# Altium footprint library Cypress Footprints.PcbLib: 193 footprints (part 11 of 13)
Each footprint in its own frame and in the unit in brackets; x right, y up, seen from the top. Pads: shape width x height; smd on the part's side, far side on the other; paste and mask are expansions set on the pad; w line width, h text height; cw(c..) or ccw(c..) is an arc to the next point about the centre after c.
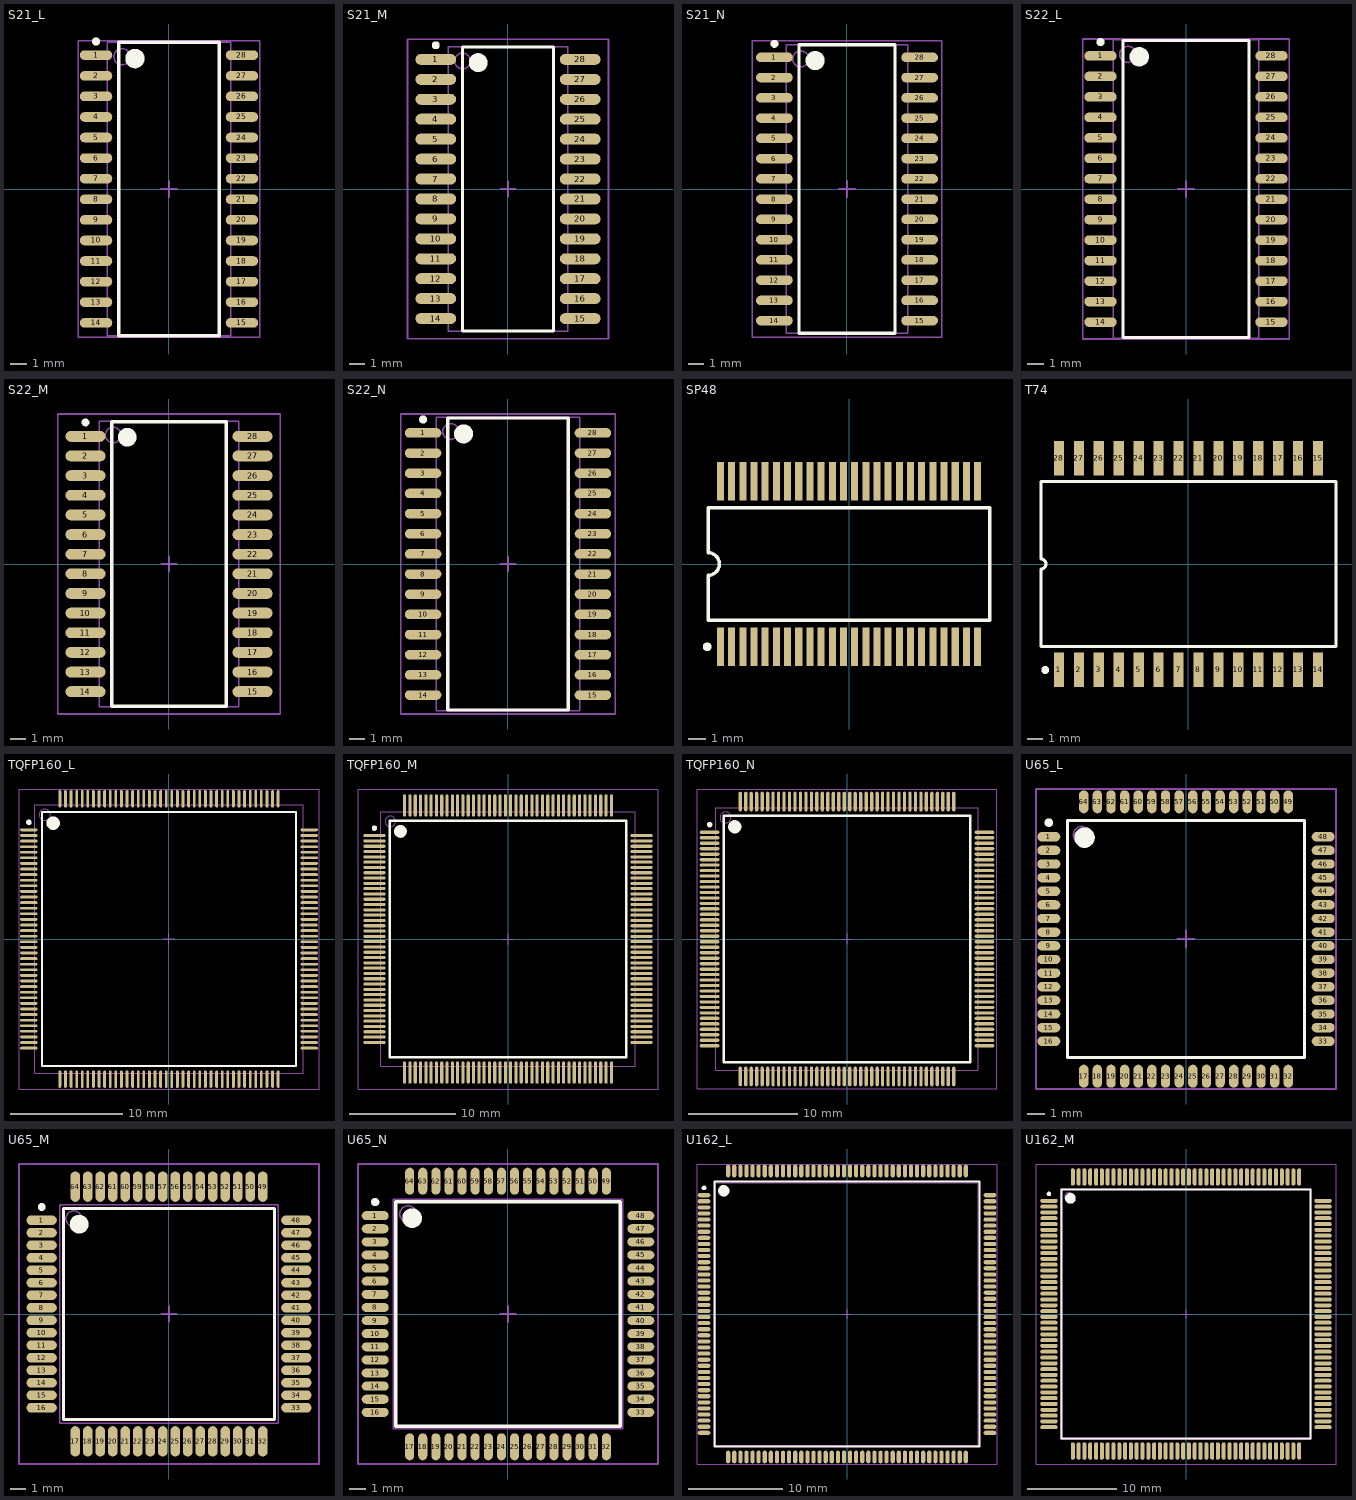
[diagram p10: the footprints below, top view; thin cyan lines are the x and y axes]

## S21_L [mm] "28-Pin Molded Small Outline Integrated Circuit 1.27 mm Pitch, IPC High Density"
height 2.67
pads (28):
  oval 2x0.6 smd: 1(-4.5,8.255) 2(-4.5,6.985) 3(-4.5,5.715) 4(-4.5,4.445) 5(-4.5,3.175) 6(-4.5,1.905) 7(-4.5,0.635) 8(-4.5,-0.635) 9(-4.5,-1.905) 10(-4.5,-3.175) 11(-4.5,-4.445) 12(-4.5,-5.715) 13(-4.5,-6.985) 14(-4.5,-8.255) 15(4.5,-8.255) 16(4.5,-6.985) 17(4.5,-5.715) 18(4.5,-4.445) 19(4.5,-3.175) 20(4.5,-1.905) 21(4.5,-0.635) 22(4.5,0.635) 23(4.5,1.905) 24(4.5,3.175) 25(4.5,4.445) 26(4.5,5.715) 27(4.5,6.985) 28(4.5,8.255)
Top Overlay:
  circle w0.25: c-4.5,9.105 r0.125
  circle w0.6: c-2.1,8.05 r0.3
  lines w0.2: -3.1,-9.05 -3.1,9.05 3.1,9.05 3.1,-9.05 -3.1,-9.05
Mechanical 13:
  circle w0.1: c-2.9,8.155 r0.5
  lines w0.1: -3.8,-9.055 -3.8,9.055 3.8,9.055 3.8,-9.055 -3.8,-9.055
Mechanical 15:
  lines w0.1: -0.5,0 0.5,0 ; 0,-0.5 0,0.5 ; -5.6,-9.15 -5.6,9.15 5.6,9.15 5.6,-9.15 -5.6,-9.15
3D body: height 2.67, standoff 0, extent -3.8,-9.055 3.8,9.055

## S21_M [mm] "28-Pin Molded Small Outline Integrated Circuit 1.27 mm Pitch, IPC Low Density"
height 2.67
pads (28):
  oval 2.6x0.7 smd: 1(-4.6,8.255) 2(-4.6,6.985) 3(-4.6,5.715) 4(-4.6,4.445) 5(-4.6,3.175) 6(-4.6,1.905) 7(-4.6,0.635) 8(-4.6,-0.635) 9(-4.6,-1.905) 10(-4.6,-3.175) 11(-4.6,-4.445) 12(-4.6,-5.715) 13(-4.6,-6.985) 14(-4.6,-8.255) 15(4.6,-8.255) 16(4.6,-6.985) 17(4.6,-5.715) 18(4.6,-4.445) 19(4.6,-3.175) 20(4.6,-1.905) 21(4.6,-0.635) 22(4.6,0.635) 23(4.6,1.905) 24(4.6,3.175) 25(4.6,4.445) 26(4.6,5.715) 27(4.6,6.985) 28(4.6,8.255)
Top Overlay:
  circle w0.25: c-4.6,9.155 r0.125
  circle w0.6: c-1.9,8.05 r0.3
  lines w0.2: -2.9,-9.05 -2.9,9.05 2.9,9.05 2.9,-9.05 -2.9,-9.05
Mechanical 13:
  circle w0.1: c-2.9,8.155 r0.5
  lines w0.1: -3.8,-9.055 -3.8,9.055 3.8,9.055 3.8,-9.055 -3.8,-9.055
Mechanical 15:
  lines w0.1: -0.5,0 0.5,0 ; 0,-0.5 0,0.5 ; -6.4,-9.55 -6.4,9.55 6.4,9.55 6.4,-9.55 -6.4,-9.55
3D body: height 2.67, standoff 0, extent -3.8,-9.055 3.8,9.055

## S21_N [mm] "28-Pin Molded Small Outline Integrated Circuit 1.27 mm Pitch, IPC Medium Density"
height 2.67
pads (28):
  oval 2.3x0.6 smd: 1(-4.55,8.255) 2(-4.55,6.985) 3(-4.55,5.715) 4(-4.55,4.445) 5(-4.55,3.175) 6(-4.55,1.905) 7(-4.55,0.635) 8(-4.55,-0.635) 9(-4.55,-1.905) 10(-4.55,-3.175) 11(-4.55,-4.445) 12(-4.55,-5.715) 13(-4.55,-6.985) 14(-4.55,-8.255) 15(4.55,-8.255) 16(4.55,-6.985) 17(4.55,-5.715) 18(4.55,-4.445) 19(4.55,-3.175) 20(4.55,-1.905) 21(4.55,-0.635) 22(4.55,0.635) 23(4.55,1.905) 24(4.55,3.175) 25(4.55,4.445) 26(4.55,5.715) 27(4.55,6.985) 28(4.55,8.255)
Top Overlay:
  circle w0.25: c-4.55,9.105 r0.125
  circle w0.6: c-2,8.05 r0.3
  lines w0.2: -3,-9.05 -3,9.05 3,9.05 3,-9.05 -3,-9.05
Mechanical 13:
  circle w0.1: c-2.9,8.155 r0.5
  lines w0.1: -3.8,-9.055 -3.8,9.055 3.8,9.055 3.8,-9.055 -3.8,-9.055
Mechanical 15:
  lines w0.1: -0.5,0 0.5,0 ; 0,-0.5 0,0.5 ; -5.95,-9.3 -5.95,9.3 5.95,9.3 5.95,-9.3 -5.95,-9.3
3D body: height 2.67, standoff 0, extent -3.8,-9.055 3.8,9.055

## S22_L [mm] "28-Pin Plastic Small Outline Integrated Circuit 1.27 mm Pitch, IPC High Density"
height 2.8
pads (28):
  oval 2x0.6 smd: 1(-5.3,8.255) 2(-5.3,6.985) 3(-5.3,5.715) 4(-5.3,4.445) 5(-5.3,3.175) 6(-5.3,1.905) 7(-5.3,0.635) 8(-5.3,-0.635) 9(-5.3,-1.905) 10(-5.3,-3.175) 11(-5.3,-4.445) 12(-5.3,-5.715) 13(-5.3,-6.985) 14(-5.3,-8.255) 15(5.3,-8.255) 16(5.3,-6.985) 17(5.3,-5.715) 18(5.3,-4.445) 19(5.3,-3.175) 20(5.3,-1.905) 21(5.3,-0.635) 22(5.3,0.635) 23(5.3,1.905) 24(5.3,3.175) 25(5.3,4.445) 26(5.3,5.715) 27(5.3,6.985) 28(5.3,8.255)
Top Overlay:
  circle w0.25: c-5.3,9.105 r0.125
  circle w0.6: c-2.9,8.2 r0.3
  lines w0.2: -3.9,-9.2 -3.9,9.2 3.9,9.2 3.9,-9.2 -3.9,-9.2
Mechanical 13:
  circle w0.1: c-3.61,8.345 r0.5
  lines w0.1: -4.51,-9.245 -4.51,9.245 4.51,9.245 4.51,-9.245 -4.51,-9.245
Mechanical 15:
  lines w0.1: -0.5,0 0.5,0 ; 0,-0.5 0,0.5 ; -6.4,-9.3 -6.4,9.3 6.4,9.3 6.4,-9.3 -6.4,-9.3
3D body: height 2.8, standoff 0, extent -4.51,-9.245 4.51,9.245

## S22_M [mm] "28-Pin Plastic Small Outline Integrated Circuit 1.27 mm Pitch, IPC Low Density"
height 2.8
pads (28):
  oval 2.6x0.7 smd: 1(-5.4,8.255) 2(-5.4,6.985) 3(-5.4,5.715) 4(-5.4,4.445) 5(-5.4,3.175) 6(-5.4,1.905) 7(-5.4,0.635) 8(-5.4,-0.635) 9(-5.4,-1.905) 10(-5.4,-3.175) 11(-5.4,-4.445) 12(-5.4,-5.715) 13(-5.4,-6.985) 14(-5.4,-8.255) 15(5.4,-8.255) 16(5.4,-6.985) 17(5.4,-5.715) 18(5.4,-4.445) 19(5.4,-3.175) 20(5.4,-1.905) 21(5.4,-0.635) 22(5.4,0.635) 23(5.4,1.905) 24(5.4,3.175) 25(5.4,4.445) 26(5.4,5.715) 27(5.4,6.985) 28(5.4,8.255)
Top Overlay:
  circle w0.25: c-5.4,9.155 r0.125
  circle w0.6: c-2.7,8.2 r0.3
  lines w0.2: -3.7,-9.2 -3.7,9.2 3.7,9.2 3.7,-9.2 -3.7,-9.2
Mechanical 13:
  circle w0.1: c-3.61,8.345 r0.5
  lines w0.1: -4.51,-9.245 -4.51,9.245 4.51,9.245 4.51,-9.245 -4.51,-9.245
Mechanical 15:
  lines w0.1: -0.5,0 0.5,0 ; 0,-0.5 0,0.5 ; -7.2,-9.7 -7.2,9.7 7.2,9.7 7.2,-9.7 -7.2,-9.7
3D body: height 2.8, standoff 0, extent -4.51,-9.245 4.51,9.245

## S22_N [mm] "28-Pin Plastic Small Outline Integrated Circuit 1.27 mm Pitch, IPC Medium Density"
height 2.8
pads (28):
  oval 2.3x0.6 smd: 1(-5.35,8.255) 2(-5.35,6.985) 3(-5.35,5.715) 4(-5.35,4.445) 5(-5.35,3.175) 6(-5.35,1.905) 7(-5.35,0.635) 8(-5.35,-0.635) 9(-5.35,-1.905) 10(-5.35,-3.175) 11(-5.35,-4.445) 12(-5.35,-5.715) 13(-5.35,-6.985) 14(-5.35,-8.255) 15(5.35,-8.255) 16(5.35,-6.985) 17(5.35,-5.715) 18(5.35,-4.445) 19(5.35,-3.175) 20(5.35,-1.905) 21(5.35,-0.635) 22(5.35,0.635) 23(5.35,1.905) 24(5.35,3.175) 25(5.35,4.445) 26(5.35,5.715) 27(5.35,6.985) 28(5.35,8.255)
Top Overlay:
  circle w0.25: c-5.35,9.105 r0.125
  circle w0.6: c-2.8,8.2 r0.3
  lines w0.2: -3.8,-9.2 -3.8,9.2 3.8,9.2 3.8,-9.2 -3.8,-9.2
Mechanical 13:
  circle w0.1: c-3.61,8.345 r0.5
  lines w0.1: -4.51,-9.245 -4.51,9.245 4.51,9.245 4.51,-9.245 -4.51,-9.245
Mechanical 15:
  lines w0.1: -0.5,0 0.5,0 ; 0,-0.5 0,0.5 ; -6.75,-9.45 -6.75,9.45 6.75,9.45 6.75,-9.45 -6.75,-9.45
3D body: height 2.8, standoff 0, extent -4.51,-9.245 4.51,9.245

## SP48 [mm] "SSOP; 48 Leads; Body Width 7.5 mm; Pitch 0.635 mm; Pb-Free"
height 2.8
pads (48):
  rect 0.4x2.2 smd: 1(-7.302,-4.7) 2(-6.667,-4.7) 3(-6.032,-4.7) 4(-5.397,-4.7) 5(-4.763,-4.7) 6(-4.127,-4.7) 7(-3.492,-4.7) 8(-2.857,-4.7) 9(-2.222,-4.7) 10(-1.587,-4.7) 11(-0.953,-4.7) 12(-0.318,-4.7) 13(0.318,-4.7) 14(0.953,-4.7) 15(1.587,-4.7) 16(2.222,-4.7) 17(2.857,-4.7) 18(3.492,-4.7) 19(4.127,-4.7) 20(4.763,-4.7) 21(5.397,-4.7) 22(6.032,-4.7) 23(6.667,-4.7) 24(7.302,-4.7) 25(7.302,4.7) 26(6.667,4.7) 27(6.032,4.7) 28(5.397,4.7) 29(4.763,4.7) 30(4.127,4.7) 31(3.492,4.7) 32(2.857,4.7) 33(2.222,4.7) 34(1.587,4.7) 35(0.953,4.7) 36(0.318,4.7) 37(-0.318,4.7) 38(-0.953,4.7) 39(-1.587,4.7) 40(-2.222,4.7) 41(-2.857,4.7) 42(-3.492,4.7) 43(-4.127,4.7) 44(-4.763,4.7) 45(-5.397,4.7) 46(-6.032,4.7) 47(-6.667,4.7) 48(-7.302,4.7)
Top Overlay:
  circle w0.25: c-8.053,-4.7 r0.125
  lines w0.2: -8,-3.2 8,-3.2 8,3.2 -8,3.2 -8,0.635 cw(c-8,0) -8,-0.635 -8,-3.2

## T74 [mm] "DFP, Window; 28 Leads; Body 18.8 x 9.7 mm (LxW max); Pitch 1.27 mm"
height 2.54
pads (28):
  rect 0.65x2.2 smd: 1(-8.255,-6.75) 2(-6.985,-6.75) 3(-5.715,-6.75) 4(-4.445,-6.75) 5(-3.175,-6.75) 6(-1.905,-6.75) 7(-0.635,-6.75) 8(0.635,-6.75) 9(1.905,-6.75) 10(3.175,-6.75) 11(4.445,-6.75) 12(5.715,-6.75) 13(6.985,-6.75) 14(8.255,-6.75) 15(8.255,6.75) 16(6.985,6.75) 17(5.715,6.75) 18(4.445,6.75) 19(3.175,6.75) 20(1.905,6.75) 21(0.635,6.75) 22(-0.635,6.75) 23(-1.905,6.75) 24(-3.175,6.75) 25(-4.445,6.75) 26(-5.715,6.75) 27(-6.985,6.75) 28(-8.255,6.75)
Top Overlay:
  circle w0.25: c-9.13,-6.75 r0.125
  lines w0.2: -9.4,-5.25 -9.4,-0.318 ccw(c-9.4,0) -9.4,0.318 -9.4,5.25 9.4,5.25 9.4,-5.25 -9.4,-5.25

## TQFP160_L [mm] "160-Pin Thin Quad Flat Pack 0.5 mm Pitch, IPC High Density"
height 1.6
pads (160):
  oval 1.55x0.25 smd: 1(-12.525,9.75) 2(-12.525,9.25) 3(-12.525,8.75) 4(-12.525,8.25) 5(-12.525,7.75) 6(-12.525,7.25) 7(-12.525,6.75) 8(-12.525,6.25) 9(-12.525,5.75) 10(-12.525,5.25) 11(-12.525,4.75) 12(-12.525,4.25) 13(-12.525,3.75) 14(-12.525,3.25) 15(-12.525,2.75) 16(-12.525,2.25) 17(-12.525,1.75) 18(-12.525,1.25) 19(-12.525,0.75) 20(-12.525,0.25) 21(-12.525,-0.25) 22(-12.525,-0.75) 23(-12.525,-1.25) 24(-12.525,-1.75) 25(-12.525,-2.25) 26(-12.525,-2.75) 27(-12.525,-3.25) 28(-12.525,-3.75) 29(-12.525,-4.25) 30(-12.525,-4.75) 31(-12.525,-5.25) 32(-12.525,-5.75) 33(-12.525,-6.25) 34(-12.525,-6.75) 35(-12.525,-7.25) 36(-12.525,-7.75) 37(-12.525,-8.25) 38(-12.525,-8.75) 39(-12.525,-9.25) 40(-12.525,-9.75) 81(12.525,-9.75) 82(12.525,-9.25) 83(12.525,-8.75) 84(12.525,-8.25) 85(12.525,-7.75) 86(12.525,-7.25) 87(12.525,-6.75) 88(12.525,-6.25) 89(12.525,-5.75) 90(12.525,-5.25) 91(12.525,-4.75) 92(12.525,-4.25) 93(12.525,-3.75) 94(12.525,-3.25) 95(12.525,-2.75) 96(12.525,-2.25) 97(12.525,-1.75) 98(12.525,-1.25) 99(12.525,-0.75) 100(12.525,-0.25) 101(12.525,0.25) 102(12.525,0.75) 103(12.525,1.25) 104(12.525,1.75) 105(12.525,2.25) 106(12.525,2.75) 107(12.525,3.25) 108(12.525,3.75) 109(12.525,4.25) 110(12.525,4.75) 111(12.525,5.25) 112(12.525,5.75) 113(12.525,6.25) 114(12.525,6.75) 115(12.525,7.25) 116(12.525,7.75) 117(12.525,8.25) 118(12.525,8.75) 119(12.525,9.25) 120(12.525,9.75)
  oval 0.25x1.55 smd: 41(-9.75,-12.525) 42(-9.25,-12.525) 43(-8.75,-12.525) 44(-8.25,-12.525) 45(-7.75,-12.525) 46(-7.25,-12.525) 47(-6.75,-12.525) 48(-6.25,-12.525) 49(-5.75,-12.525) 50(-5.25,-12.525) 51(-4.75,-12.525) 52(-4.25,-12.525) 53(-3.75,-12.525) 54(-3.25,-12.525) 55(-2.75,-12.525) 56(-2.25,-12.525) 57(-1.75,-12.525) 58(-1.25,-12.525) 59(-0.75,-12.525) 60(-0.25,-12.525) 61(0.25,-12.525) 62(0.75,-12.525) 63(1.25,-12.525) 64(1.75,-12.525) 65(2.25,-12.525) 66(2.75,-12.525) 67(3.25,-12.525) 68(3.75,-12.525) 69(4.25,-12.525) 70(4.75,-12.525) 71(5.25,-12.525) 72(5.75,-12.525) 73(6.25,-12.525) 74(6.75,-12.525) 75(7.25,-12.525) 76(7.75,-12.525) 77(8.25,-12.525) 78(8.75,-12.525) 79(9.25,-12.525) 80(9.75,-12.525) 121(9.75,12.525) 122(9.25,12.525) 123(8.75,12.525) 124(8.25,12.525) 125(7.75,12.525) 126(7.25,12.525) 127(6.75,12.525) 128(6.25,12.525) 129(5.75,12.525) 130(5.25,12.525) 131(4.75,12.525) 132(4.25,12.525) 133(3.75,12.525) 134(3.25,12.525) 135(2.75,12.525) 136(2.25,12.525) 137(1.75,12.525) 138(1.25,12.525) 139(0.75,12.525) 140(0.25,12.525) 141(-0.25,12.525) 142(-0.75,12.525) 143(-1.25,12.525) 144(-1.75,12.525) 145(-2.25,12.525) 146(-2.75,12.525) 147(-3.25,12.525) 148(-3.75,12.525) 149(-4.25,12.525) 150(-4.75,12.525) 151(-5.25,12.525) 152(-5.75,12.525) 153(-6.25,12.525) 154(-6.75,12.525) 155(-7.25,12.525) 156(-7.75,12.525) 157(-8.25,12.525) 158(-8.75,12.525) 159(-9.25,12.525) 160(-9.75,12.525)
Top Overlay:
  circle w0.6: c-10.35,10.35 r0.3
  circle w0.25: c-12.525,10.425 r0.125
  lines w0.2: -11.35,-11.35 11.35,-11.35 11.35,11.35 -11.35,11.35 -11.35,-11.35
Mechanical 13:
  circle w0.1: c-11.1,11.1 r0.5
  lines w0.1: -12,-12 12,-12 12,12 -12,12 -12,-12
Mechanical 15:
  lines w0.1: -0.5,0 0.5,0 ; 0,-0.5 0,0.5 ; -13.4,-13.4 13.4,-13.4 13.4,13.4 -13.4,13.4 -13.4,-13.4
3D body: height 1.6, standoff 0, extent -12,-12 12,12

## TQFP160_M [mm] "160-Pin Thin Quad Flat Pack 0.5 mm Pitch, IPC Low Density"
height 1.6
pads (160):
  oval 2.1x0.3 smd: 1(-12.6,9.75) 2(-12.6,9.25) 3(-12.6,8.75) 4(-12.6,8.25) 5(-12.6,7.75) 6(-12.6,7.25) 7(-12.6,6.75) 8(-12.6,6.25) 9(-12.6,5.75) 10(-12.6,5.25) 11(-12.6,4.75) 12(-12.6,4.25) 13(-12.6,3.75) 14(-12.6,3.25) 15(-12.6,2.75) 16(-12.6,2.25) 17(-12.6,1.75) 18(-12.6,1.25) 19(-12.6,0.75) 20(-12.6,0.25) 21(-12.6,-0.25) 22(-12.6,-0.75) 23(-12.6,-1.25) 24(-12.6,-1.75) 25(-12.6,-2.25) 26(-12.6,-2.75) 27(-12.6,-3.25) 28(-12.6,-3.75) 29(-12.6,-4.25) 30(-12.6,-4.75) 31(-12.6,-5.25) 32(-12.6,-5.75) 33(-12.6,-6.25) 34(-12.6,-6.75) 35(-12.6,-7.25) 36(-12.6,-7.75) 37(-12.6,-8.25) 38(-12.6,-8.75) 39(-12.6,-9.25) 40(-12.6,-9.75) 81(12.6,-9.75) 82(12.6,-9.25) 83(12.6,-8.75) 84(12.6,-8.25) 85(12.6,-7.75) 86(12.6,-7.25) 87(12.6,-6.75) 88(12.6,-6.25) 89(12.6,-5.75) 90(12.6,-5.25) 91(12.6,-4.75) 92(12.6,-4.25) 93(12.6,-3.75) 94(12.6,-3.25) 95(12.6,-2.75) 96(12.6,-2.25) 97(12.6,-1.75) 98(12.6,-1.25) 99(12.6,-0.75) 100(12.6,-0.25) 101(12.6,0.25) 102(12.6,0.75) 103(12.6,1.25) 104(12.6,1.75) 105(12.6,2.25) 106(12.6,2.75) 107(12.6,3.25) 108(12.6,3.75) 109(12.6,4.25) 110(12.6,4.75) 111(12.6,5.25) 112(12.6,5.75) 113(12.6,6.25) 114(12.6,6.75) 115(12.6,7.25) 116(12.6,7.75) 117(12.6,8.25) 118(12.6,8.75) 119(12.6,9.25) 120(12.6,9.75)
  oval 0.3x2.1 smd: 41(-9.75,-12.6) 42(-9.25,-12.6) 43(-8.75,-12.6) 44(-8.25,-12.6) 45(-7.75,-12.6) 46(-7.25,-12.6) 47(-6.75,-12.6) 48(-6.25,-12.6) 49(-5.75,-12.6) 50(-5.25,-12.6) 51(-4.75,-12.6) 52(-4.25,-12.6) 53(-3.75,-12.6) 54(-3.25,-12.6) 55(-2.75,-12.6) 56(-2.25,-12.6) 57(-1.75,-12.6) 58(-1.25,-12.6) 59(-0.75,-12.6) 60(-0.25,-12.6) 61(0.25,-12.6) 62(0.75,-12.6) 63(1.25,-12.6) 64(1.75,-12.6) 65(2.25,-12.6) 66(2.75,-12.6) 67(3.25,-12.6) 68(3.75,-12.6) 69(4.25,-12.6) 70(4.75,-12.6) 71(5.25,-12.6) 72(5.75,-12.6) 73(6.25,-12.6) 74(6.75,-12.6) 75(7.25,-12.6) 76(7.75,-12.6) 77(8.25,-12.6) 78(8.75,-12.6) 79(9.25,-12.6) 80(9.75,-12.6) 121(9.75,12.6) 122(9.25,12.6) 123(8.75,12.6) 124(8.25,12.6) 125(7.75,12.6) 126(7.25,12.6) 127(6.75,12.6) 128(6.25,12.6) 129(5.75,12.6) 130(5.25,12.6) 131(4.75,12.6) 132(4.25,12.6) 133(3.75,12.6) 134(3.25,12.6) 135(2.75,12.6) 136(2.25,12.6) 137(1.75,12.6) 138(1.25,12.6) 139(0.75,12.6) 140(0.25,12.6) 141(-0.25,12.6) 142(-0.75,12.6) 143(-1.25,12.6) 144(-1.75,12.6) 145(-2.25,12.6) 146(-2.75,12.6) 147(-3.25,12.6) 148(-3.75,12.6) 149(-4.25,12.6) 150(-4.75,12.6) 151(-5.25,12.6) 152(-5.75,12.6) 153(-6.25,12.6) 154(-6.75,12.6) 155(-7.25,12.6) 156(-7.75,12.6) 157(-8.25,12.6) 158(-8.75,12.6) 159(-9.25,12.6) 160(-9.75,12.6)
Top Overlay:
  circle w0.6: c-10.15,10.15 r0.3
  circle w0.25: c-12.6,10.45 r0.125
  lines w0.2: -11.15,-11.15 11.15,-11.15 11.15,11.15 -11.15,11.15 -11.15,-11.15
Mechanical 13:
  circle w0.1: c-11.1,11.1 r0.5
  lines w0.1: -12,-12 12,-12 12,12 -12,12 -12,-12
Mechanical 15:
  lines w0.1: -0.5,0 0.5,0 ; 0,-0.5 0,0.5 ; -14.15,-14.15 14.15,-14.15 14.15,14.15 -14.15,14.15 -14.15,-14.15
3D body: height 1.6, standoff 0, extent -12,-12 12,12

## TQFP160_N [mm] "160-Pin Thin Quad Flat Pack 0.5 mm Pitch, IPC Medium Density"
height 1.6
pads (160):
  oval 1.8x0.3 smd: 1(-12.55,9.75) 2(-12.55,9.25) 3(-12.55,8.75) 4(-12.55,8.25) 5(-12.55,7.75) 6(-12.55,7.25) 7(-12.55,6.75) 8(-12.55,6.25) 9(-12.55,5.75) 10(-12.55,5.25) 11(-12.55,4.75) 12(-12.55,4.25) 13(-12.55,3.75) 14(-12.55,3.25) 15(-12.55,2.75) 16(-12.55,2.25) 17(-12.55,1.75) 18(-12.55,1.25) 19(-12.55,0.75) 20(-12.55,0.25) 21(-12.55,-0.25) 22(-12.55,-0.75) 23(-12.55,-1.25) 24(-12.55,-1.75) 25(-12.55,-2.25) 26(-12.55,-2.75) 27(-12.55,-3.25) 28(-12.55,-3.75) 29(-12.55,-4.25) 30(-12.55,-4.75) 31(-12.55,-5.25) 32(-12.55,-5.75) 33(-12.55,-6.25) 34(-12.55,-6.75) 35(-12.55,-7.25) 36(-12.55,-7.75) 37(-12.55,-8.25) 38(-12.55,-8.75) 39(-12.55,-9.25) 40(-12.55,-9.75) 81(12.55,-9.75) 82(12.55,-9.25) 83(12.55,-8.75) 84(12.55,-8.25) 85(12.55,-7.75) 86(12.55,-7.25) 87(12.55,-6.75) 88(12.55,-6.25) 89(12.55,-5.75) 90(12.55,-5.25) 91(12.55,-4.75) 92(12.55,-4.25) 93(12.55,-3.75) 94(12.55,-3.25) 95(12.55,-2.75) 96(12.55,-2.25) 97(12.55,-1.75) 98(12.55,-1.25) 99(12.55,-0.75) 100(12.55,-0.25) 101(12.55,0.25) 102(12.55,0.75) 103(12.55,1.25) 104(12.55,1.75) 105(12.55,2.25) 106(12.55,2.75) 107(12.55,3.25) 108(12.55,3.75) 109(12.55,4.25) 110(12.55,4.75) 111(12.55,5.25) 112(12.55,5.75) 113(12.55,6.25) 114(12.55,6.75) 115(12.55,7.25) 116(12.55,7.75) 117(12.55,8.25) 118(12.55,8.75) 119(12.55,9.25) 120(12.55,9.75)
  oval 0.3x1.8 smd: 41(-9.75,-12.55) 42(-9.25,-12.55) 43(-8.75,-12.55) 44(-8.25,-12.55) 45(-7.75,-12.55) 46(-7.25,-12.55) 47(-6.75,-12.55) 48(-6.25,-12.55) 49(-5.75,-12.55) 50(-5.25,-12.55) 51(-4.75,-12.55) 52(-4.25,-12.55) 53(-3.75,-12.55) 54(-3.25,-12.55) 55(-2.75,-12.55) 56(-2.25,-12.55) 57(-1.75,-12.55) 58(-1.25,-12.55) 59(-0.75,-12.55) 60(-0.25,-12.55) 61(0.25,-12.55) 62(0.75,-12.55) 63(1.25,-12.55) 64(1.75,-12.55) 65(2.25,-12.55) 66(2.75,-12.55) 67(3.25,-12.55) 68(3.75,-12.55) 69(4.25,-12.55) 70(4.75,-12.55) 71(5.25,-12.55) 72(5.75,-12.55) 73(6.25,-12.55) 74(6.75,-12.55) 75(7.25,-12.55) 76(7.75,-12.55) 77(8.25,-12.55) 78(8.75,-12.55) 79(9.25,-12.55) 80(9.75,-12.55) 121(9.75,12.55) 122(9.25,12.55) 123(8.75,12.55) 124(8.25,12.55) 125(7.75,12.55) 126(7.25,12.55) 127(6.75,12.55) 128(6.25,12.55) 129(5.75,12.55) 130(5.25,12.55) 131(4.75,12.55) 132(4.25,12.55) 133(3.75,12.55) 134(3.25,12.55) 135(2.75,12.55) 136(2.25,12.55) 137(1.75,12.55) 138(1.25,12.55) 139(0.75,12.55) 140(0.25,12.55) 141(-0.25,12.55) 142(-0.75,12.55) 143(-1.25,12.55) 144(-1.75,12.55) 145(-2.25,12.55) 146(-2.75,12.55) 147(-3.25,12.55) 148(-3.75,12.55) 149(-4.25,12.55) 150(-4.75,12.55) 151(-5.25,12.55) 152(-5.75,12.55) 153(-6.25,12.55) 154(-6.75,12.55) 155(-7.25,12.55) 156(-7.75,12.55) 157(-8.25,12.55) 158(-8.75,12.55) 159(-9.25,12.55) 160(-9.75,12.55)
Top Overlay:
  circle w0.6: c-10.25,10.25 r0.3
  circle w0.25: c-12.55,10.45 r0.125
  lines w0.2: -11.25,-11.25 11.25,-11.25 11.25,11.25 -11.25,11.25 -11.25,-11.25
Mechanical 13:
  circle w0.1: c-11.1,11.1 r0.5
  lines w0.1: -12,-12 12,-12 12,12 -12,12 -12,-12
Mechanical 15:
  lines w0.1: -0.5,0 0.5,0 ; 0,-0.5 0,0.5 ; -13.7,-13.7 13.7,-13.7 13.7,13.7 -13.7,13.7 -13.7,-13.7
3D body: height 1.6, standoff 0, extent -12,-12 12,12

## U65_L [mm] "64-Pin Ceramic Cavity Up Quad Flat Pack 0.8 mm Pitch, IPC High Density"
height 3
pads (64):
  oval 1.35x0.55 smd: 1(-8.05,6) 2(-8.05,5.2) 3(-8.05,4.4) 4(-8.05,3.6) 5(-8.05,2.8) 6(-8.05,2) 7(-8.05,1.2) 8(-8.05,0.4) 9(-8.05,-0.4) 10(-8.05,-1.2) 11(-8.05,-2) 12(-8.05,-2.8) 13(-8.05,-3.6) 14(-8.05,-4.4) 15(-8.05,-5.2) 16(-8.05,-6) 33(8.05,-6) 34(8.05,-5.2) 35(8.05,-4.4) 36(8.05,-3.6) 37(8.05,-2.8) 38(8.05,-2) 39(8.05,-1.2) 40(8.05,-0.4) 41(8.05,0.4) 42(8.05,1.2) 43(8.05,2) 44(8.05,2.8) 45(8.05,3.6) 46(8.05,4.4) 47(8.05,5.2) 48(8.05,6)
  oval 0.55x1.35 smd: 17(-6,-8.05) 18(-5.2,-8.05) 19(-4.4,-8.05) 20(-3.6,-8.05) 21(-2.8,-8.05) 22(-2,-8.05) 23(-1.2,-8.05) 24(-0.4,-8.05) 25(0.4,-8.05) 26(1.2,-8.05) 27(2,-8.05) 28(2.8,-8.05) 29(3.6,-8.05) 30(4.4,-8.05) 31(5.2,-8.05) 32(6,-8.05) 49(6,8.05) 50(5.2,8.05) 51(4.4,8.05) 52(3.6,8.05) 53(2.8,8.05) 54(2,8.05) 55(1.2,8.05) 56(0.4,8.05) 57(-0.4,8.05) 58(-1.2,8.05) 59(-2,8.05) 60(-2.8,8.05) 61(-3.6,8.05) 62(-4.4,8.05) 63(-5.2,8.05) 64(-6,8.05)
Top Overlay:
  circle w0.6: c-5.95,5.95 r0.3
  circle w0.25: c-8.05,6.825 r0.125
  lines w0.2: -6.95,-6.95 6.95,-6.95 6.95,6.95 -6.95,6.95 -6.95,-6.95
Mechanical 13:
  circle w0.1: c-6.1,6.1 r0.5
  lines w0.1: -7,-7 7,-7 7,7 -7,7 -7,-7
Mechanical 15:
  lines w0.1: -0.5,0 0.5,0 ; 0,-0.5 0,0.5 ; -8.8,-8.8 8.8,-8.8 8.8,8.8 -8.8,8.8 -8.8,-8.8
3D body: height 3, standoff 0, extent -7,-7 7,7

## U65_M [mm] "64-Pin Ceramic Cavity Up Quad Flat Pack 0.8 mm Pitch, IPC Low Density"
height 3
pads (64):
  oval 1.95x0.6 smd: 1(-8.15,6) 2(-8.15,5.2) 3(-8.15,4.4) 4(-8.15,3.6) 5(-8.15,2.8) 6(-8.15,2) 7(-8.15,1.2) 8(-8.15,0.4) 9(-8.15,-0.4) 10(-8.15,-1.2) 11(-8.15,-2) 12(-8.15,-2.8) 13(-8.15,-3.6) 14(-8.15,-4.4) 15(-8.15,-5.2) 16(-8.15,-6) 33(8.15,-6) 34(8.15,-5.2) 35(8.15,-4.4) 36(8.15,-3.6) 37(8.15,-2.8) 38(8.15,-2) 39(8.15,-1.2) 40(8.15,-0.4) 41(8.15,0.4) 42(8.15,1.2) 43(8.15,2) 44(8.15,2.8) 45(8.15,3.6) 46(8.15,4.4) 47(8.15,5.2) 48(8.15,6)
  oval 0.6x1.95 smd: 17(-6,-8.15) 18(-5.2,-8.15) 19(-4.4,-8.15) 20(-3.6,-8.15) 21(-2.8,-8.15) 22(-2,-8.15) 23(-1.2,-8.15) 24(-0.4,-8.15) 25(0.4,-8.15) 26(1.2,-8.15) 27(2,-8.15) 28(2.8,-8.15) 29(3.6,-8.15) 30(4.4,-8.15) 31(5.2,-8.15) 32(6,-8.15) 49(6,8.15) 50(5.2,8.15) 51(4.4,8.15) 52(3.6,8.15) 53(2.8,8.15) 54(2,8.15) 55(1.2,8.15) 56(0.4,8.15) 57(-0.4,8.15) 58(-1.2,8.15) 59(-2,8.15) 60(-2.8,8.15) 61(-3.6,8.15) 62(-4.4,8.15) 63(-5.2,8.15) 64(-6,8.15)
Top Overlay:
  circle w0.6: c-5.75,5.75 r0.3
  circle w0.25: c-8.15,6.85 r0.125
  lines w0.2: -6.75,-6.75 6.75,-6.75 6.75,6.75 -6.75,6.75 -6.75,-6.75
Mechanical 13:
  circle w0.1: c-6.1,6.1 r0.5
  lines w0.1: -7,-7 7,-7 7,7 -7,7 -7,-7
Mechanical 15:
  lines w0.1: -0.5,0 0.5,0 ; 0,-0.5 0,0.5 ; -9.6,-9.6 9.6,-9.6 9.6,9.6 -9.6,9.6 -9.6,-9.6
3D body: height 3, standoff 0, extent -7,-7 7,7

## U65_N [mm] "64-Pin Ceramic Cavity Up Quad Flat Pack 0.8 mm Pitch, IPC Medium Density"
height 3
pads (64):
  oval 1.65x0.55 smd: 1(-8.1,6) 2(-8.1,5.2) 3(-8.1,4.4) 4(-8.1,3.6) 5(-8.1,2.8) 6(-8.1,2) 7(-8.1,1.2) 8(-8.1,0.4) 9(-8.1,-0.4) 10(-8.1,-1.2) 11(-8.1,-2) 12(-8.1,-2.8) 13(-8.1,-3.6) 14(-8.1,-4.4) 15(-8.1,-5.2) 16(-8.1,-6) 33(8.1,-6) 34(8.1,-5.2) 35(8.1,-4.4) 36(8.1,-3.6) 37(8.1,-2.8) 38(8.1,-2) 39(8.1,-1.2) 40(8.1,-0.4) 41(8.1,0.4) 42(8.1,1.2) 43(8.1,2) 44(8.1,2.8) 45(8.1,3.6) 46(8.1,4.4) 47(8.1,5.2) 48(8.1,6)
  oval 0.55x1.65 smd: 17(-6,-8.1) 18(-5.2,-8.1) 19(-4.4,-8.1) 20(-3.6,-8.1) 21(-2.8,-8.1) 22(-2,-8.1) 23(-1.2,-8.1) 24(-0.4,-8.1) 25(0.4,-8.1) 26(1.2,-8.1) 27(2,-8.1) 28(2.8,-8.1) 29(3.6,-8.1) 30(4.4,-8.1) 31(5.2,-8.1) 32(6,-8.1) 49(6,8.1) 50(5.2,8.1) 51(4.4,8.1) 52(3.6,8.1) 53(2.8,8.1) 54(2,8.1) 55(1.2,8.1) 56(0.4,8.1) 57(-0.4,8.1) 58(-1.2,8.1) 59(-2,8.1) 60(-2.8,8.1) 61(-3.6,8.1) 62(-4.4,8.1) 63(-5.2,8.1) 64(-6,8.1)
Top Overlay:
  circle w0.6: c-5.85,5.85 r0.3
  circle w0.25: c-8.1,6.825 r0.125
  lines w0.2: -6.85,-6.85 6.85,-6.85 6.85,6.85 -6.85,6.85 -6.85,-6.85
Mechanical 13:
  circle w0.1: c-6.1,6.1 r0.5
  lines w0.1: -7,-7 7,-7 7,7 -7,7 -7,-7
Mechanical 15:
  lines w0.1: -0.5,0 0.5,0 ; 0,-0.5 0,0.5 ; -9.15,-9.15 9.15,-9.15 9.15,9.15 -9.15,9.15 -9.15,-9.15
3D body: height 3, standoff 0, extent -7,-7 7,7

## U162_L [mm] "160-Pin Ceramic Cavity Up Quad Flat Pack 0.65 mm Pitch, IPC High Density"
height 2.79
pads (160):
  oval 1.35x0.45 smd: 1(-15.25,12.675) 2(-15.25,12.025) 3(-15.25,11.375) 4(-15.25,10.725) 5(-15.25,10.075) 6(-15.25,9.425) 7(-15.25,8.775) 8(-15.25,8.125) 9(-15.25,7.475) 10(-15.25,6.825) 11(-15.25,6.175) 12(-15.25,5.525) 13(-15.25,4.875) 14(-15.25,4.225) 15(-15.25,3.575) 16(-15.25,2.925) 17(-15.25,2.275) 18(-15.25,1.625) 19(-15.25,0.975) 20(-15.25,0.325) 21(-15.25,-0.325) 22(-15.25,-0.975) 23(-15.25,-1.625) 24(-15.25,-2.275) 25(-15.25,-2.925) 26(-15.25,-3.575) 27(-15.25,-4.225) 28(-15.25,-4.875) 29(-15.25,-5.525) 30(-15.25,-6.175) 31(-15.25,-6.825) 32(-15.25,-7.475) 33(-15.25,-8.125) 34(-15.25,-8.775) 35(-15.25,-9.425) 36(-15.25,-10.075) 37(-15.25,-10.725) 38(-15.25,-11.375) 39(-15.25,-12.025) 40(-15.25,-12.675) 81(15.25,-12.675) 82(15.25,-12.025) 83(15.25,-11.375) 84(15.25,-10.725) 85(15.25,-10.075) 86(15.25,-9.425) 87(15.25,-8.775) 88(15.25,-8.125) 89(15.25,-7.475) 90(15.25,-6.825) 91(15.25,-6.175) 92(15.25,-5.525) 93(15.25,-4.875) 94(15.25,-4.225) 95(15.25,-3.575) 96(15.25,-2.925) 97(15.25,-2.275) 98(15.25,-1.625) 99(15.25,-0.975) 100(15.25,-0.325) 101(15.25,0.325) 102(15.25,0.975) 103(15.25,1.625) 104(15.25,2.275) 105(15.25,2.925) 106(15.25,3.575) 107(15.25,4.225) 108(15.25,4.875) 109(15.25,5.525) 110(15.25,6.175) 111(15.25,6.825) 112(15.25,7.475) 113(15.25,8.125) 114(15.25,8.775) 115(15.25,9.425) 116(15.25,10.075) 117(15.25,10.725) 118(15.25,11.375) 119(15.25,12.025) 120(15.25,12.675)
  oval 0.45x1.35 smd: 41(-12.675,-15.25) 42(-12.025,-15.25) 43(-11.375,-15.25) 44(-10.725,-15.25) 45(-10.075,-15.25) 46(-9.425,-15.25) 47(-8.775,-15.25) 48(-8.125,-15.25) 49(-7.475,-15.25) 50(-6.825,-15.25) 51(-6.175,-15.25) 52(-5.525,-15.25) 53(-4.875,-15.25) 54(-4.225,-15.25) 55(-3.575,-15.25) 56(-2.925,-15.25) 57(-2.275,-15.25) 58(-1.625,-15.25) 59(-0.975,-15.25) 60(-0.325,-15.25) 61(0.325,-15.25) 62(0.975,-15.25) 63(1.625,-15.25) 64(2.275,-15.25) 65(2.925,-15.25) 66(3.575,-15.25) 67(4.225,-15.25) 68(4.875,-15.25) 69(5.525,-15.25) 70(6.175,-15.25) 71(6.825,-15.25) 72(7.475,-15.25) 73(8.125,-15.25) 74(8.775,-15.25) 75(9.425,-15.25) 76(10.075,-15.25) 77(10.725,-15.25) 78(11.375,-15.25) 79(12.025,-15.25) 80(12.675,-15.25) 121(12.675,15.25) 122(12.025,15.25) 123(11.375,15.25) 124(10.725,15.25) 125(10.075,15.25) 126(9.425,15.25) 127(8.775,15.25) 128(8.125,15.25) 129(7.475,15.25) 130(6.825,15.25) 131(6.175,15.25) 132(5.525,15.25) 133(4.875,15.25) 134(4.225,15.25) 135(3.575,15.25) 136(2.925,15.25) 137(2.275,15.25) 138(1.625,15.25) 139(0.975,15.25) 140(0.325,15.25) 141(-0.325,15.25) 142(-0.975,15.25) 143(-1.625,15.25) 144(-2.275,15.25) 145(-2.925,15.25) 146(-3.575,15.25) 147(-4.225,15.25) 148(-4.875,15.25) 149(-5.525,15.25) 150(-6.175,15.25) 151(-6.825,15.25) 152(-7.475,15.25) 153(-8.125,15.25) 154(-8.775,15.25) 155(-9.425,15.25) 156(-10.075,15.25) 157(-10.725,15.25) 158(-11.375,15.25) 159(-12.025,15.25) 160(-12.675,15.25)
Top Overlay:
  circle w0.6: c-13.15,13.15 r0.3
  circle w0.25: c-15.25,13.45 r0.125
  lines w0.2: -14.15,-14.15 14.15,-14.15 14.15,14.15 -14.15,14.15 -14.15,-14.15
Mechanical 13:
  circle w0.1: c-13.1,13.1 r0.5
  lines w0.1: -14,-14 14,-14 14,14 -14,14 -14,-14
Mechanical 15:
  lines w0.1: -0.5,0 0.5,0 ; 0,-0.5 0,0.5 ; -16,-16 16,-16 16,16 -16,16 -16,-16
3D body: height 2.79, standoff 0, extent -14,-14 14,14

## U162_M [mm] "160-Pin Ceramic Cavity Up Quad Flat Pack 0.65 mm Pitch, IPC Low Density"
height 2.79
pads (160):
  oval 1.95x0.45 smd: 1(-15.35,12.675) 2(-15.35,12.025) 3(-15.35,11.375) 4(-15.35,10.725) 5(-15.35,10.075) 6(-15.35,9.425) 7(-15.35,8.775) 8(-15.35,8.125) 9(-15.35,7.475) 10(-15.35,6.825) 11(-15.35,6.175) 12(-15.35,5.525) 13(-15.35,4.875) 14(-15.35,4.225) 15(-15.35,3.575) 16(-15.35,2.925) 17(-15.35,2.275) 18(-15.35,1.625) 19(-15.35,0.975) 20(-15.35,0.325) 21(-15.35,-0.325) 22(-15.35,-0.975) 23(-15.35,-1.625) 24(-15.35,-2.275) 25(-15.35,-2.925) 26(-15.35,-3.575) 27(-15.35,-4.225) 28(-15.35,-4.875) 29(-15.35,-5.525) 30(-15.35,-6.175) 31(-15.35,-6.825) 32(-15.35,-7.475) 33(-15.35,-8.125) 34(-15.35,-8.775) 35(-15.35,-9.425) 36(-15.35,-10.075) 37(-15.35,-10.725) 38(-15.35,-11.375) 39(-15.35,-12.025) 40(-15.35,-12.675) 81(15.35,-12.675) 82(15.35,-12.025) 83(15.35,-11.375) 84(15.35,-10.725) 85(15.35,-10.075) 86(15.35,-9.425) 87(15.35,-8.775) 88(15.35,-8.125) 89(15.35,-7.475) 90(15.35,-6.825) 91(15.35,-6.175) 92(15.35,-5.525) 93(15.35,-4.875) 94(15.35,-4.225) 95(15.35,-3.575) 96(15.35,-2.925) 97(15.35,-2.275) 98(15.35,-1.625) 99(15.35,-0.975) 100(15.35,-0.325) 101(15.35,0.325) 102(15.35,0.975) 103(15.35,1.625) 104(15.35,2.275) 105(15.35,2.925) 106(15.35,3.575) 107(15.35,4.225) 108(15.35,4.875) 109(15.35,5.525) 110(15.35,6.175) 111(15.35,6.825) 112(15.35,7.475) 113(15.35,8.125) 114(15.35,8.775) 115(15.35,9.425) 116(15.35,10.075) 117(15.35,10.725) 118(15.35,11.375) 119(15.35,12.025) 120(15.35,12.675)
  oval 0.45x1.95 smd: 41(-12.675,-15.35) 42(-12.025,-15.35) 43(-11.375,-15.35) 44(-10.725,-15.35) 45(-10.075,-15.35) 46(-9.425,-15.35) 47(-8.775,-15.35) 48(-8.125,-15.35) 49(-7.475,-15.35) 50(-6.825,-15.35) 51(-6.175,-15.35) 52(-5.525,-15.35) 53(-4.875,-15.35) 54(-4.225,-15.35) 55(-3.575,-15.35) 56(-2.925,-15.35) 57(-2.275,-15.35) 58(-1.625,-15.35) 59(-0.975,-15.35) 60(-0.325,-15.35) 61(0.325,-15.35) 62(0.975,-15.35) 63(1.625,-15.35) 64(2.275,-15.35) 65(2.925,-15.35) 66(3.575,-15.35) 67(4.225,-15.35) 68(4.875,-15.35) 69(5.525,-15.35) 70(6.175,-15.35) 71(6.825,-15.35) 72(7.475,-15.35) 73(8.125,-15.35) 74(8.775,-15.35) 75(9.425,-15.35) 76(10.075,-15.35) 77(10.725,-15.35) 78(11.375,-15.35) 79(12.025,-15.35) 80(12.675,-15.35) 121(12.675,15.35) 122(12.025,15.35) 123(11.375,15.35) 124(10.725,15.35) 125(10.075,15.35) 126(9.425,15.35) 127(8.775,15.35) 128(8.125,15.35) 129(7.475,15.35) 130(6.825,15.35) 131(6.175,15.35) 132(5.525,15.35) 133(4.875,15.35) 134(4.225,15.35) 135(3.575,15.35) 136(2.925,15.35) 137(2.275,15.35) 138(1.625,15.35) 139(0.975,15.35) 140(0.325,15.35) 141(-0.325,15.35) 142(-0.975,15.35) 143(-1.625,15.35) 144(-2.275,15.35) 145(-2.925,15.35) 146(-3.575,15.35) 147(-4.225,15.35) 148(-4.875,15.35) 149(-5.525,15.35) 150(-6.175,15.35) 151(-6.825,15.35) 152(-7.475,15.35) 153(-8.125,15.35) 154(-8.775,15.35) 155(-9.425,15.35) 156(-10.075,15.35) 157(-10.725,15.35) 158(-11.375,15.35) 159(-12.025,15.35) 160(-12.675,15.35)
Top Overlay:
  circle w0.6: c-12.95,12.95 r0.3
  circle w0.25: c-15.35,13.45 r0.125
  lines w0.2: -13.95,-13.95 13.95,-13.95 13.95,13.95 -13.95,13.95 -13.95,-13.95
Mechanical 13:
  circle w0.1: c-13.1,13.1 r0.5
  lines w0.1: -14,-14 14,-14 14,14 -14,14 -14,-14
Mechanical 15:
  lines w0.1: -0.5,0 0.5,0 ; 0,-0.5 0,0.5 ; -16.8,-16.8 16.8,-16.8 16.8,16.8 -16.8,16.8 -16.8,-16.8
3D body: height 2.79, standoff 0, extent -14,-14 14,14